# Altium schematic symbol library INA333.SchLib: 1 symbol
Pins are listed as number, name and electrical type; pins without a type are passive.

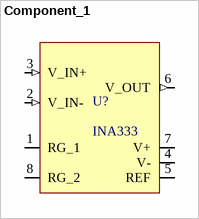
[diagram p0: symbol Component_1]

## Component_1
designator U?, comment INA333
Reference: INA333; Package: SSOP
footprint INA333_SSOP (SSOP)
pins: 1 RG_1 "Gain Resistor", 2 V_IN- (in) "Voltage input", 3 V_IN+ (in) "Voltage input", 4 V- (power) "Source Voltage Input", 5 REF (power) "Source Voltage Input", 6 V_OUT (out) "Voltage output", 7 V+ (power) "Source Voltage Input", 8 RG_2 "Gain Resistor"